# EAGLE library part 74990111215 (library Wurth Electronics Midcom Inc V1-0)
Package Style: HPLE RJ45 10/100 STD Mounting: THT LED: Y-G Shield: 293-0533 Header: 183-0132 Windings Primary: Aux: Secondary: Best pinouts for production vary per application. Please contact Wurth Electronics Midcom, Inc. for assistance with your custom design. Datasheet: 74990111215 <http://katalog.we-online.de/kataloge/eisos/media/pdf/74990111215.pdf> Website: Wurth Electronics Midcom <http://www.we-online.com/midcom> Contact us Wurth Electronics Midcom, Inc. 121 Airport Dr. Watertown, SD 57201 Phone: (605) 886-4385 Fax: (605) 886-4486 E-Mail: midcom@we-online.com
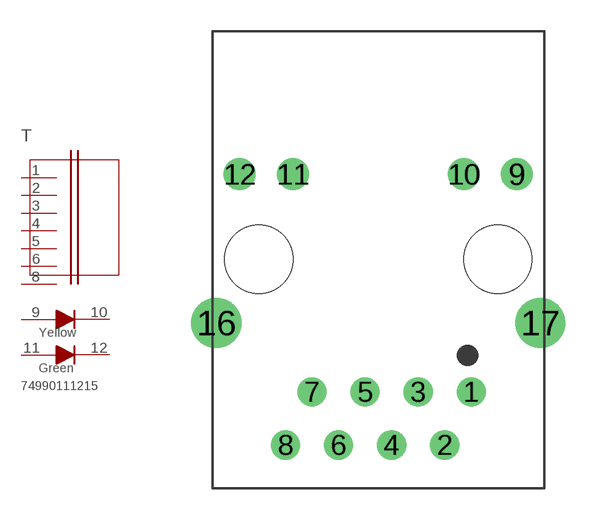
[diagram p179: symbol with the pads of 01LAN_RJ45_10/00_Y-G_STD; footprint 01LAN_RJ45_10/00_Y-G_STD]

Designator prefix T

## 74990111215  [01LAN_RJ45_10/00_Y-G_STD]
1  1  pas
2  2  pas
3  3  pas
4  4  pas
5  5  pas
6  6  pas
8  7  pas
9  8  pas
10  9  pas
11  10  pas
12  11  pas

## Footprint 01LAN_RJ45_10/00_Y-G_STD (pad centres in mm)
Package Style: RJ45 10/100 STD Mounting: THT LED: Y-G
drill 0.889 round: 1 4.445,-6.325; 2 3.175,-8.865; 3 1.905,-6.325; 4 0.635,-8.865; 5 -0.635,-6.325; 6 -1.905,-8.865; 7 -3.175,-6.325; 8 -4.445,-8.865
drill 1.016 round: 9 6.629,4.089; 10 4.089,4.089; 11 -4.089,4.089; 12 -6.629,4.089
drill 1.6 round: 16 -7.747,-3.023; 17 7.747,-3.023
hole 3.251 at -5.715,0.025
hole 3.251 at 5.715,0.025